# Altium schematic symbol library 运放.SchLib: 4 symbols
Pins are listed as number, name and electrical type; pins without a type are passive.

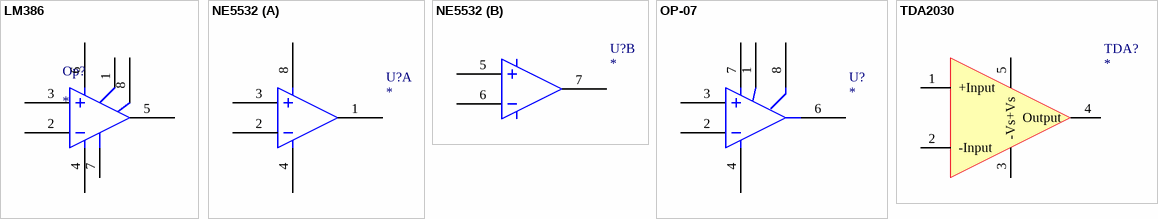
[diagram p0: symbols LM386 to TDA2030]

## LM386
designator Op?
Low Voltage Audio Power Amplifier
footprint DIP-8
footprint SOIC-8
pins: 1 GAIN, 2, 3, 4 GND (power), 5 Vout, 6 Vs "正电源，4-18V", 7 Bypass, 8 GAIN

## NE5532
designator U?
OPA2134: The OPA134 series are ultra-low distortion, low noise  operational amplifiers fully specified for audio appli-  cations. A true FET input stage was incorporated to  provide superior sound quality and speed for excep-  tional audio performance.
footprint DIP-8
footprint SOIC-8
part A pins: 1, 2, 3, 4, 8
part B pins: 5, 6, 7

## OP-07
designator U?
footprint DIP-8
pins: 1, 2, 3, 4, 6, 7, 8

## TDA2030
designator TDA?
footprint TDA5
pins: 1 +Input, 2 -Input, 3 -Vs, 4 Output, 5 +Vs